# Altium schematic symbol library DAC.SchLib: 5 symbols
Pins are listed as number, name and electrical type; pins without a type are passive.

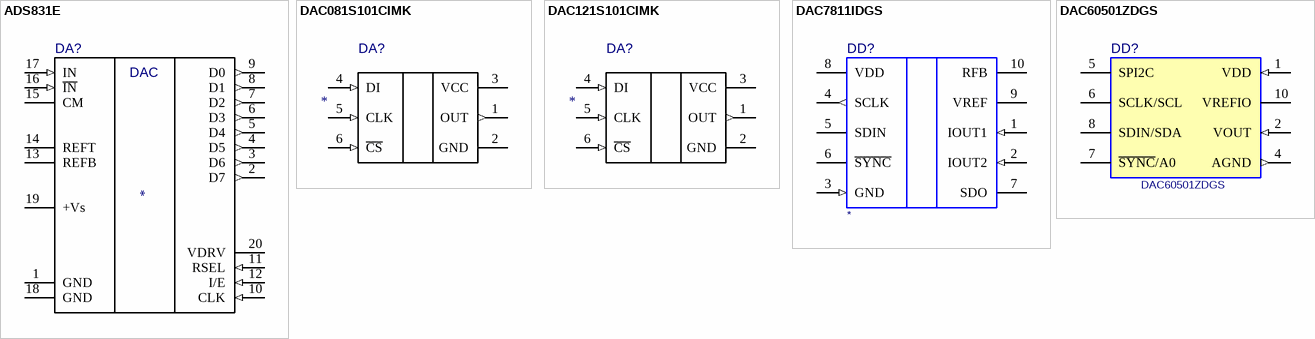
[diagram p0: symbols ADS831E to DAC60501ZDGS]

## ADS831E
designator DA?
footprint DBQ-20
signal-integrity model Model Name (Model Description)
pins: 1 GND (power), 2 D7 (out), 3 D6 (out), 4 D5 (out), 5 D4 (out), 6 D3 (out), 7 D2 (out), 8 D1 (out), 9 D0 (out), 10 CLK (in), 11 RSEL (in), 12 I/E (in), 13 REFB (power), 14 REFT (power), 15 CM (power), 16 ~{IN} (in), 17 IN (in), 18 GND (power), 19 +Vs (power), 20 VDRV (power)
text: DAC

## DAC081S101CIMK
designator DA?
8-Bit Micro Power Digital-to-Analog Converter with Rail-to-Rail Output
footprint TSOT-6 (MK06A)
signal-integrity model DAC081S101_si (Model Description)
pins: 1 OUT (out), 2 GND (power), 3 VCC (power), 4 DI (in), 5 CLK (in), 6 ~{CS} (in)

## DAC121S101CIMK
designator DA?
12-Bit Micro Power, RRO Digital-to-Analog Converter
footprint TSOT-6 (MK06A)
signal-integrity model DAC081S101_si (Model Description)
pins: 1 OUT (out), 2 GND (power), 3 VCC (power), 4 DI (in), 5 CLK (in), 6 ~{CS} (in)

## DAC7811IDGS
designator DD?
12-Bit, Serial Input, Multiplying Digital-to-Analog Converter
footprint MSOP10 (MO-187-BA)
pins: 1 IOUT1 (in), 2 IOUT2 (in), 3 GND (in), 4 SCLK (out), 5 SDIN (power), 6 ~{SYNC} (power), 7 SDO (power), 8 VDD (power), 9 VREF (power), 10 RFB (power)

## DAC60501ZDGS
designator DD?
DACx0501 16-Bit, 14-Bit, and 12-Bit, 1-LSB INL, Voltage-Output DACs With Precision Internal Reference / • 16-bit performance: 1-LSB INL and DNL (max) / • Low glitch energy: 4 nV–s / • Wide power supply: 2.7 V to 5.5 V / • Buffered output range: 5 V, 2.5 V, or 1.25 V / • Very-low power: 1 mA at 5.5 V / • Integrated 5-ppm/˚C (max), 2.5-V precision / reference / • Pin-selectable serial interface: / – 3-wire, SPI compatible up to 50-MHz / – 2-wire, I2C compatible / • Power-on-reset: Zero scale or midscale / • 1.62-V VIH with VDD = 5.5 V / • Temperature range: –40˚C to +125˚C
footprint MSOP10 (MO-187-BA)
pins: 1 VDD (in), 2 VOUT (in), 4 AGND (out), 5 SPI2C (power), 6 SCLK/SCL (power), 7 ~{SYNC}/A0 (power), 8 SDIN/SDA (power), 10 VREFIO (power)